# Altium schematic symbol library PI34xx-00.SchLib: 1 symbol
Pins are listed as number, name and electrical type; pins without a type are passive.

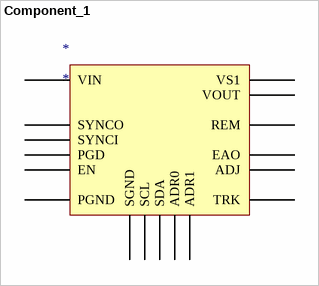
[diagram p0: symbol Component_1]

## Component_1
designator *
pins: ADJ, ADR0, ADR1, EAO, EN, PGD, PGND, REM, SCL, SDA, SGND, SYNCI, SYNCO, TRK, VIN, VOUT, VS1